# EAGLE library part ATXMEGAA4U (library Atmel)
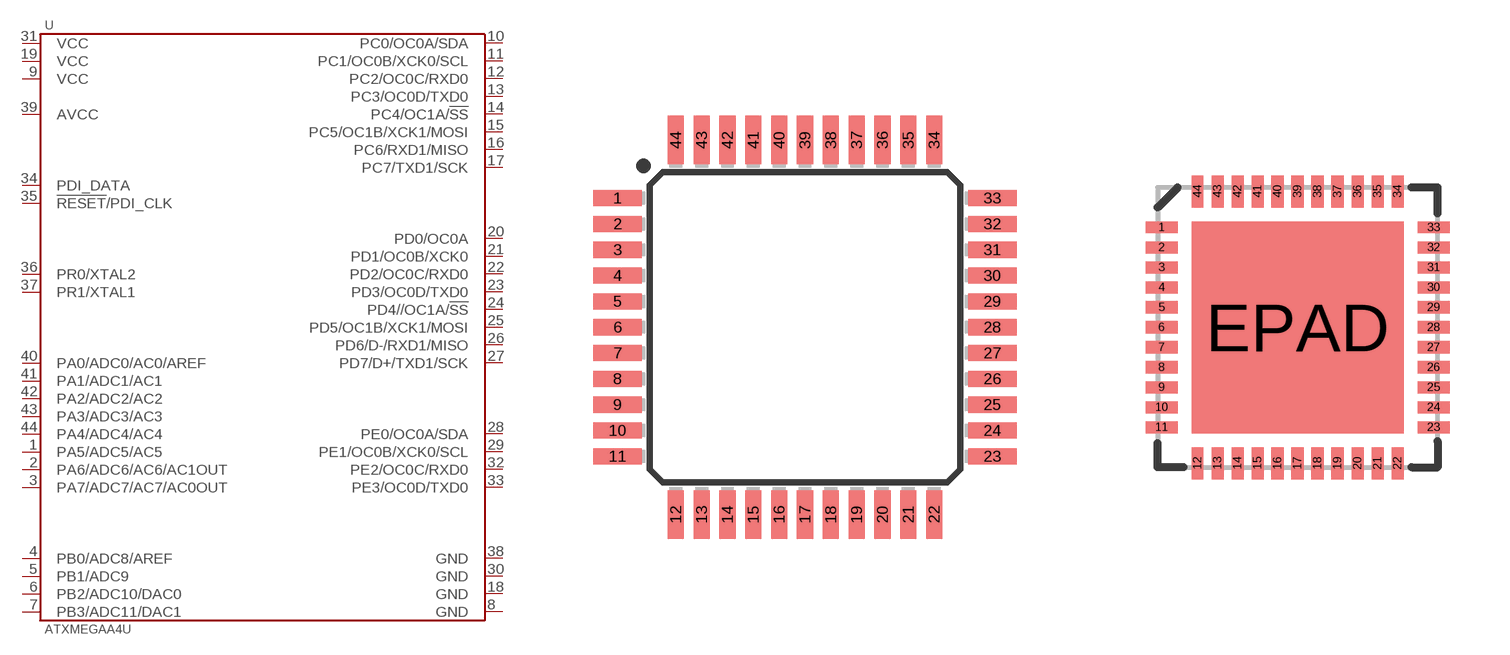
[diagram p4: symbol with the pads of TQFP-44; footprints TQFP-44, VQFN-44]

Designator prefix U

## ATXMEGAA4U-TQFP  [TQFP-44]
1  PA5/ADC5/AC5
2  PA6/ADC6/AC6/AC1OUT
3  PA7/ADC7/AC7/AC0OUT
4  PB0/ADC8/AREF
5  PB1/ADC9
6  PB2/ADC10/DAC0
7  PB3/ADC11/DAC1
8  GND
9  VCC
10  PC0/OC0A/SDA
11  PC1/OC0B/XCK0/SCL
12  PC2/OC0C/RXD0
13  PC3/OC0D/TXD0
14  PC4/OC1A/!SS
15  PC5/OC1B/XCK1/MOSI
16  PC6/RXD1/MISO
17  PC7/TXD1/SCK
18  GND
19  VCC
20  PD0/OC0A
21  PD1/OC0B/XCK0
22  PD2/OC0C/RXD0
23  PD3/OC0D/TXD0
24  PD4//OC1A/!SS
25  PD5/OC1B/XCK1/MOSI
26  PD6/D-/RXD1/MISO
27  PD7/D+/TXD1/SCK
28  PE0/OC0A/SDA
29  PE1/OC0B/XCK0/SCL
30  GND
31  VCC
32  PE2/OC0C/RXD0
33  PE3/OC0D/TXD0
34  PDI_DATA
35  !RESET!/PDI_CLK
36  PR0/XTAL2
37  PR1/XTAL1
38  GND
39  AVCC
40  PA0/ADC0/AC0/AREF
41  PA1/ADC1/AC1
42  PA2/ADC2/AC2
43  PA3/ADC3/AC3
44  PA4/ADC4/AC4

## ATXMEGAA4U-QFN  [VQFN-44]
1  PA5/ADC5/AC5
2  PA6/ADC6/AC6/AC1OUT
3  PA7/ADC7/AC7/AC0OUT
4  PB0/ADC8/AREF
5  PB1/ADC9
6  PB2/ADC10/DAC0
7  PB3/ADC11/DAC1
8  GND
9  VCC
10  PC0/OC0A/SDA
11  PC1/OC0B/XCK0/SCL
12  PC2/OC0C/RXD0
13  PC3/OC0D/TXD0
14  PC4/OC1A/!SS
15  PC5/OC1B/XCK1/MOSI
16  PC6/RXD1/MISO
17  PC7/TXD1/SCK
18  GND
19  VCC
20  PD0/OC0A
21  PD1/OC0B/XCK0
22  PD2/OC0C/RXD0
23  PD3/OC0D/TXD0
24  PD4//OC1A/!SS
25  PD5/OC1B/XCK1/MOSI
26  PD6/D-/RXD1/MISO
27  PD7/D+/TXD1/SCK
28  PE0/OC0A/SDA
29  PE1/OC0B/XCK0/SCL
30  GND
31  VCC
32  PE2/OC0C/RXD0
33  PE3/OC0D/TXD0
34  PDI_DATA
35  !RESET!/PDI_CLK
36  PR0/XTAL2
37  PR1/XTAL1
38  GND
39  AVCC
40  PA0/ADC0/AC0/AREF
41  PA1/ADC1/AC1
42  PA2/ADC2/AC2
43  PA3/ADC3/AC3
44  PA4/ADC4/AC4
EPAD  GND

## ATXMEGAA4U-BGA  [VFBGA-49]
A1  PA3/ADC3/AC3
A2  AVCC
A3  GND
A4  PR1/XTAL1
A5  PR0/XTAL2
A6  PDI_DATA
A7  PE3/OC0D/TXD0
B1  PA4/ADC4/AC4
B2  PA1/ADC1/AC1
B3  PA0/ADC0/AC0/AREF
B4  GND
B5  !RESET!/PDI_CLK
B6  PE2/OC0C/RXD0
B7  VCC
C1  PA5/ADC5/AC5
C2  PA2/ADC2/AC2
C3  PA6/ADC6/AC6/AC1OUT
C4  PA7/ADC7/AC7/AC0OUT
C5  GND
C6  PE1/OC0B/XCK0/SCL
C7  GND
D1  PB1/ADC9
D2  PB2/ADC10/DAC0
D3  PB3/ADC11/DAC1
D4  PB0/ADC8/AREF
D5  GND
D6  PD7/D+/TXD1/SCK
D7  PE0/OC0A/SDA
E1  GND
E2  GND
E3  PC3/OC0D/TXD0
E4  GND
E5  PD4//OC1A/!SS
E6  PD5/OC1B/XCK1/MOSI
E7  PD6/D-/RXD1/MISO
F1  VCC
F2  PC0/OC0A/SDA
F3  PC4/OC1A/!SS
F4  PC6/RXD1/MISO
F5  PD0/OC0A
F6  PD1/OC0B/XCK0
F7  PD3/OC0D/TXD0
G1  PC1/OC0B/XCK0/SCL
G2  PC2/OC0C/RXD0
G3  PC5/OC1B/XCK1/MOSI
G4  PC7/TXD1/SCK
G5  GND
G6  VCC
G7  PD2/OC0C/RXD0

## Footprint TQFP-44 (pad centres in mm)
smd 1.5 x 0.5: 1 -5.8,4; 2 -5.8,3.2; 3 -5.8,2.4; 4 -5.8,1.6; 5 -5.8,0.8; 6 -5.8,0; 7 -5.8,-0.8; 8 -5.8,-1.6; 9 -5.8,-2.4; 10 -5.8,-3.2; 11 -5.8,-4; 23 5.8,-4; 24 5.8,-3.2; 25 5.8,-2.4; 26 5.8,-1.6; 27 5.8,-0.8; 28 5.8,0; 29 5.8,0.8; 30 5.8,1.6; 31 5.8,2.4; 32 5.8,3.2; 33 5.8,4
smd 0.5 x 1.5: 12 -4,-5.8; 13 -3.2,-5.8; 14 -2.4,-5.8; 15 -1.6,-5.8; 16 -0.8,-5.8; 17 0,-5.8; 18 0.8,-5.8; 19 1.6,-5.8; 20 2.4,-5.8; 21 3.2,-5.8; 22 4,-5.8; 34 4,5.8; 35 3.2,5.8; 36 2.4,5.8; 37 1.6,5.8; 38 0.8,5.8; 39 0,5.8; 40 -0.8,5.8; 41 -1.6,5.8; 42 -2.4,5.8; 43 -3.2,5.8; 44 -4,5.8

## Footprint VQFN-44 (pad centres in mm)
smd 0.8 x 0.3: 1 -3.4,2.5; 2 -3.4,2; 3 -3.4,1.5; 4 -3.4,1; 5 -3.4,0.5; 6 -3.4,0; 7 -3.4,-0.5; 8 -3.4,-1; 9 -3.4,-1.5; 10 -3.4,-2; 11 -3.4,-2.5; 23 3.4,-2.5; 24 3.4,-2; 25 3.4,-1.5; 26 3.4,-1; 27 3.4,-0.5; 28 3.4,0; 29 3.4,0.5; 30 3.4,1; 31 3.4,1.5; 32 3.4,2; 33 3.4,2.5
smd 0.3 x 0.8: 12 -2.5,-3.4; 13 -2,-3.4; 14 -1.5,-3.4; 15 -1,-3.4; 16 -0.5,-3.4; 17 0,-3.4; 18 0.5,-3.4; 19 1,-3.4; 20 1.5,-3.4; 21 2,-3.4; 22 2.5,-3.4; 34 2.5,3.4; 35 2,3.4; 36 1.5,3.4; 37 1,3.4; 38 0.5,3.4; 39 0,3.4; 40 -0.5,3.4; 41 -1,3.4; 42 -1.5,3.4; 43 -2,3.4; 44 -2.5,3.4
smd 5.3 x 5.3: EPAD 0,0

## Footprint VFBGA-49 (pad centres in mm)
smd 0.35 x 0.35: A1 -1.95,1.95; A2 -1.3,1.95; A3 -0.65,1.95; A4 0,1.95; A5 0.65,1.95; A6 1.3,1.95; A7 1.95,1.95; B1 -1.95,1.3; B2 -1.3,1.3; B3 -0.65,1.3; B4 0,1.3; B5 0.65,1.3; B6 1.3,1.3; B7 1.95,1.3; C1 -1.95,0.65; C2 -1.3,0.65; C3 -0.65,0.65; C4 0,0.65; C5 0.65,0.65; C6 1.3,0.65; C7 1.95,0.65; D1 -1.95,0; D2 -1.3,0; D3 -0.65,0; D4 0,0; D5 0.65,0; D6 1.3,0; D7 1.95,0; E1 -1.95,-0.65; E2 -1.3,-0.65; E3 -0.65,-0.65; E4 0,-0.65; E5 0.65,-0.65; E6 1.3,-0.65; E7 1.95,-0.65; F1 -1.95,-1.3; F2 -1.3,-1.3; F3 -0.65,-1.3; F4 0,-1.3; F5 0.65,-1.3; F6 1.3,-1.3; F7 1.95,-1.3; G1 -1.95,-1.95; G2 -1.3,-1.95; G3 -0.65,-1.95; G4 0,-1.95; G5 0.65,-1.95; G6 1.3,-1.95; G7 1.95,-1.95